# EAGLE library part ISL6545 (library LunchBox48_ASIC_board)
ISL6545 Intersil, Buck Controller
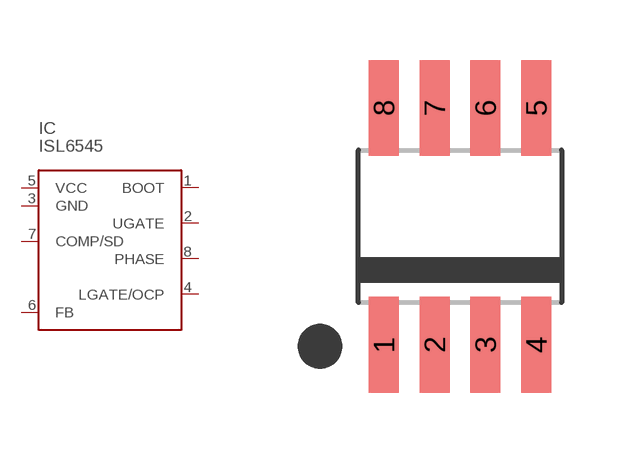
[diagram p4: symbol with the pads of SO-8_BIGPADS; footprint SO-8_BIGPADS]

Designator prefix IC

## ISL6545  [SO-8_BIGPADS]
1  BOOT
2  UGATE  out
3  GND  pwr
4  LGATE/OCP  out
5  VCC  pwr
6  FB  in
7  COMP/SD  out
8  PHASE

## Footprint SO-8_BIGPADS (pad centres in mm)
smd 0.75 x 2.4: 1 -1.905,-2.958; 2 -0.635,-2.958; 3 0.635,-2.958; 4 1.905,-2.958; 5 1.905,2.958; 6 0.635,2.958; 7 -0.635,2.958; 8 -1.905,2.958